# EAGLE library part CY8C29666_SSOP (library cypresspsoc_0.30)
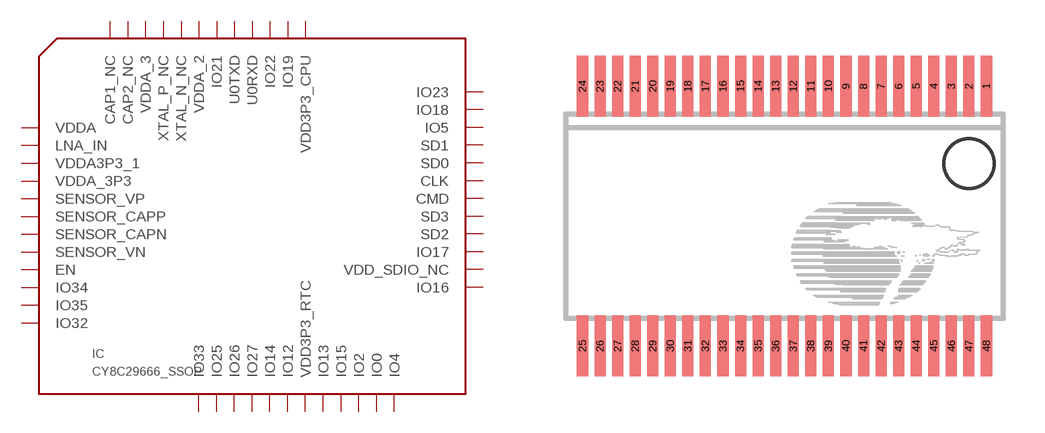
[diagram p9: symbol with the pads of SSOP48; footprint SSOP48]

Designator prefix IC

## CY8C29666_SSOP  [SSOP48]
1  VDDA_2
2  XTAL_N_NC
3  XTAL_P_NC
4  VDDA_3
5  CAP2_NC
6  CAP1_NC
7  VDDA
8  LNA_IN
9  VDDA3P3_1
10  VDDA_3P3
11  SENSOR_VP
12  SENSOR_CAPP
13  SENSOR_CAPN  pwr
14  SENSOR_VN
15  EN
16  IO34
17  IO35
18  IO32
19  IO33
20  IO25
21  IO26
22  IO27
23  IO14
24  IO12  pwr
25  VDD3P3_RTC
26  IO13
27  IO15
28  IO2
29  IO0
30  IO4
31  IO16
32  VDD_SDIO_NC
33  IO17
34  SD2
35  SD3
36  CMD
37  CLK
38  SD0
39  SD1
40  IO5
41  IO18
42  IO23
43  VDD3P3_CPU
44  IO19
45  IO22
46  U0RXD
47  U0TXD
48  IO21  pwr

## Footprint SSOP48 (pad centres in mm)
Shrunk Small Outline Package with 48 pins
smd 0.4 x 2.2: 1 6.859,4.573; 2 6.223,4.573; 3 5.588,4.573; 4 4.954,4.573; 5 4.319,4.573; 6 3.683,4.573; 7 3.049,4.573; 8 2.413,4.573; 9 1.778,4.573; 10 1.143,4.573; 11 0.508,4.573; 12 -0.127,4.573; 13 -0.762,4.573; 14 -1.397,4.573; 15 -2.033,4.573; 16 -2.667,4.573; 17 -3.303,4.573; 18 -3.938,4.573; 19 -4.572,4.573; 20 -5.207,4.573; 21 -5.843,4.573; 22 -6.478,4.573; 23 -7.112,4.573; 24 -7.747,4.573; 25 -7.747,-4.827; 26 -7.112,-4.827; 27 -6.478,-4.827; 28 -5.843,-4.827; 29 -5.207,-4.827; 30 -4.572,-4.827; 31 -3.938,-4.827; 32 -3.303,-4.827; 33 -2.667,-4.827; 34 -2.033,-4.827; 35 -1.397,-4.827; 36 -0.762,-4.827; 37 -0.127,-4.827; 38 0.508,-4.827; 39 1.143,-4.827; 40 1.778,-4.827; 41 2.413,-4.827; 42 3.049,-4.827; 43 3.683,-4.827; 44 4.319,-4.827; 45 4.954,-4.827; 46 5.588,-4.827; 47 6.223,-4.827; 48 6.859,-4.827